# EAGLE library part RTC (library hsa_stm32_discovery_board)
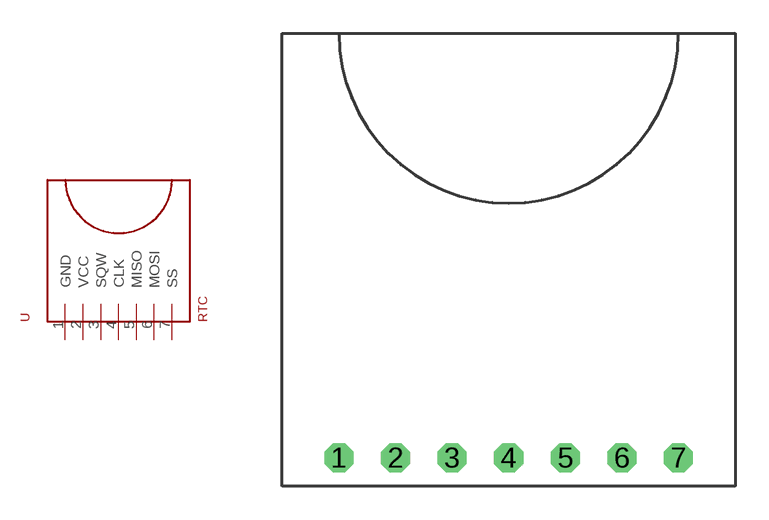
[diagram p2: symbol with the pads of RTC; footprint RTC]

Designator prefix -

## RTC  [RTC]
1  GND
2  VCC
3  SQW
4  CLK
5  MISO
6  MOSI
7  SS

## Footprint RTC (pad centres in mm)
drill 0.8 octagon: 1 2.54,1.27; 2 5.08,1.27; 3 7.62,1.27; 4 10.16,1.27; 5 12.7,1.27; 6 15.24,1.27; 7 17.78,1.27